# EAGLE library part TC7MBL3253 (library comingle)
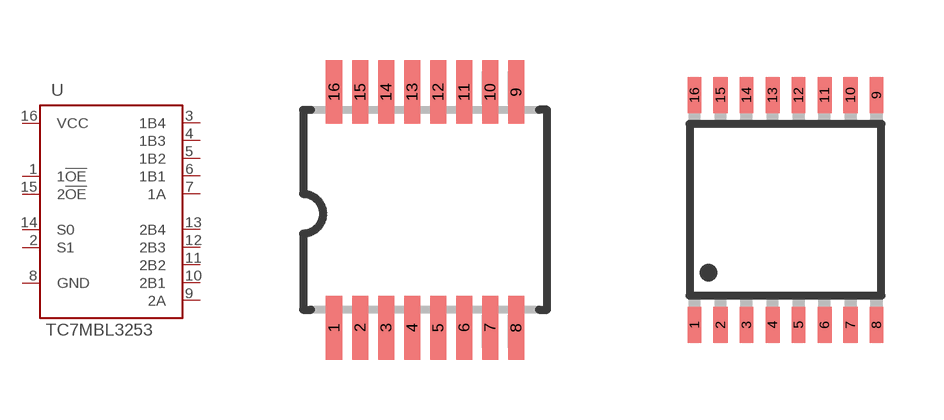
[diagram p3: symbol with the pads of TSSOP16; footprints TSSOP16, SSOP16]

Designator prefix -

## TC7MBL3253TSSOP  [TSSOP16]
1  1!OE  in
2  S1
3  1B4
4  1B3
5  1B2
6  1B1
7  1A
8  GND  pwr
9  2A
10  2B1
11  2B2
12  2B3
13  2B4
14  S0
15  2!OE  in
16  VCC  pwr

## TC7MBL3253  [SSOP16]
Pads as for TSSOP16

## Footprint TSSOP16 (pad centres in mm)
TSOP16 thin small outline package
smd 0.4 x 1.6: 1 -2.225,-2.85; 2 -1.575,-2.85; 3 -0.925,-2.85; 4 -0.275,-2.85; 5 0.375,-2.85; 6 1.025,-2.85; 7 1.675,-2.85; 8 2.325,-2.85; 9 2.325,3.05; 10 1.675,3.05; 11 1.025,3.05; 12 0.375,3.05; 13 -0.275,3.05; 14 -0.925,3.05; 15 -1.575,3.05; 16 -2.225,3.05

## Footprint SSOP16 (pad centres in mm)
smd 0.35 x 0.9: 1 -2.275,-2.875; 2 -1.625,-2.875; 3 -0.975,-2.875; 4 -0.325,-2.875; 5 0.325,-2.875; 6 0.975,-2.875; 7 1.625,-2.875; 8 2.275,-2.875; 9 2.275,2.875; 10 1.625,2.875; 11 0.975,2.875; 12 0.325,2.875; 13 -0.325,2.875; 14 -0.975,2.875; 15 -1.625,2.875; 16 -2.275,2.875